# Altium footprint library PcbLib1.PcbLib: 4 footprints
Each footprint in its own frame and in the unit in brackets; x right, y up, seen from the top. Pads: shape width x height; smd on the part's side, far side on the other; paste and mask are expansions set on the pad; w line width, h text height; cw(c..) or ccw(c..) is an arc to the next point about the centre after c.
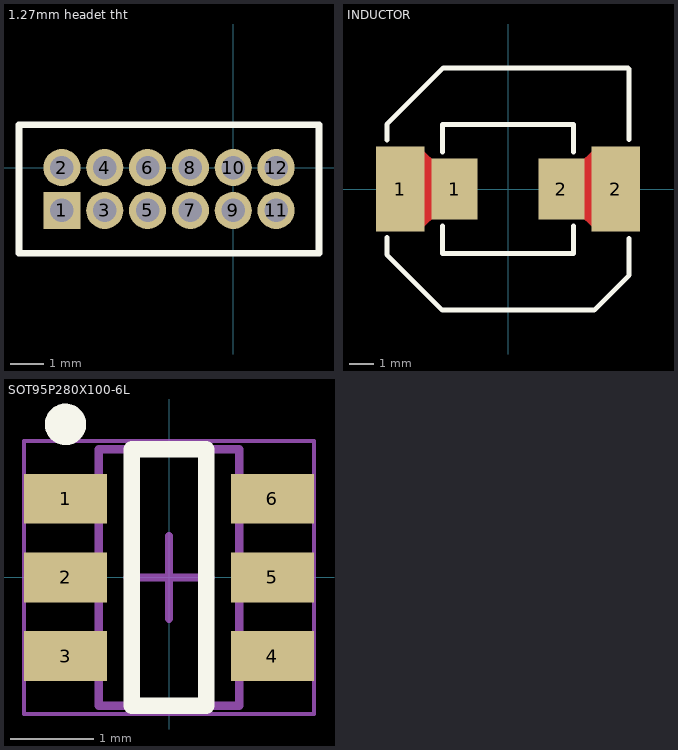
[diagram p0: the footprints below, top view; thin cyan lines are the x and y axes]

## 1.27mm headet tht [mm]
pads (12):
  rect 1.1x1.1 hole 0.7: 1(-5.08,-1.27)
  round 1.1 hole 0.7: 2(-5.08,0) 3(-3.81,-1.27) 4(-3.81,0) 5(-2.54,-1.27) 6(-2.54,0) 7(-1.27,-1.27) 8(-1.27,0) 9(0,-1.27) 10(0,0) 11(1.27,-1.27) 12(1.27,0)
Top Overlay:
  lines w0.2: -6.35,-2.54 -6.35,1.27 2.54,1.27 2.54,-2.54 -6.35,-2.54

## INDUCTOR [mm]
pads (4):
  rect 2x3.5 smd: 1(-4.445,0) 2(4.445,0)
  rect 1.9x2.5 smd: 1(-2.2,0) 2(2.2,0)
Top Layer:
  region: 3.556,-1.651 2.921,-1.016 2.921,1.016 3.556,1.651
  region: -1.143,1.778
  region: -3.556,1.651 -2.921,1.016 -2.921,-1.016 -3.556,-1.651
Top Overlay:
  lines w0.2: -5,-1.996 -5,-2.713 -2.713,-5 3.556,-5 5,-3.556 5,-2.032 ; -5,2.024 -5,2.667 -2.667,5 4.953,5 5,4.953 5,2.032 ; -2.7,-1.524 -2.7,-2.667 2.7,-2.667 2.7,-1.524 ; -2.7,1.524 -2.7,2.667 2.7,2.667 2.7,1.524

## PCBComponent_1 [mm]

## SOT95P280X100-6L [mm] "SOT23, 6-Leads, Body 2.90x2.80mm, Pitch 0.95mm, IPC High Density"
height 1
pads (6):
  rect 1x0.6 smd: 1(-1.25,0.95) 2(-1.25,0) 3(-1.25,-0.95) 4(1.25,-0.95) 5(1.25,0) 6(1.25,0.95)
Top Overlay:
  circle w0.25: c-1.25,1.85 r0.125
  lines w0.2: -0.45,-1.55 0.45,-1.55 0.45,1.55 -0.45,1.55 -0.45,-1.55
Mechanical 13:
  lines w0.1: -0.85,-1.55 -0.85,1.55 0.85,1.55 0.85,-1.55 -0.85,-1.55
Mechanical 15:
  lines w0.05: -1.75,-1.65 -1.75,1.65 1.75,1.65 1.75,-1.65 -1.75,-1.65
  lines w0.1: -0.5,0 0.5,0 ; 0,-0.5 0,0.5
3D body "SOT95P280X100-6L.step": height 1, standoff 0, extent -1.5,-1.55 1.5,1.55